# Altium schematic symbol library multiplexorparts.SchLib: 14 symbols
Pins are listed as number, name and electrical type; pins without a type are passive.

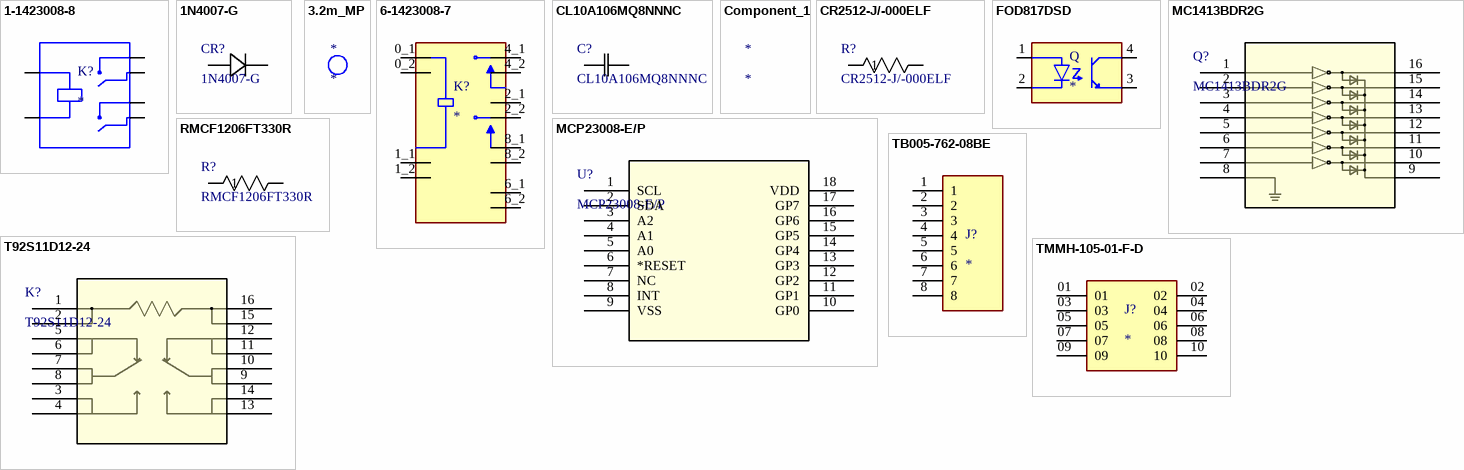
[diagram p0: symbols 1-1423008-8 to TMMH-105-01-F-D]

## 1-1423008-8
designator K?
T92 Series 30 A 24 VDC SPST PCB Mount Through Hole General Purpose Relay; MP: 1-1423008-8; MF: TE Connectivity; Price: None; Package: None; Value: *; Check_prices: https://www.snapeda.com/parts/1-1423008-8/TE%20Connectivity%20Potter%20&%20Brumfield%20Relays/view-part/264002/?ref=eda; Availability: Bad; EU_RoHS_Compliance: Compliant; SnapEDA_Link: https://www.snapeda.com/parts/1-1423008-8/TE%20Connectivity%20Potter%20&%20Brumfield%20Relays/view-part/264002/?ref=snap
footprint RELAY_1-1423008-8
pins: 0.1 0, 0.2 0, 1.1 1, 1.2 1, 2.1 2, 2.2 2, 4.1 4, 4.2 4, 6.1 6, 6.2 6, 8.1 8, 8.2 8

## 1N4007-G
designator CR?
No Description Available; Mfr_Name: Comchip; Type: DEV; Copyright: Copyright (C) 2022 Ultra Librarian. All rights reserved.; Manufacturer_Part_Number: 1N4007-G; Digi-Key_Part_Number_1: 641-1312-1-ND; Digi-Key_Part_Number_2: 641-1312-3-ND; RefDes: RefDes
footprint 1N4-G
pins: 1 11, 2 12

## 3.2m_MP
designator *

## 6-1423008-7
designator K?
General Purpose Relay DPST-NO (2 Form A) 24VDC Coil Through Hole; MP: 6-1423008-7; MF: TE Connectivity / P&B; Package: None; Purchase-URL: https://pricing.snapeda.com/search/part/6-1423008-7/?ref=eda; Price: None; Value: *; SnapEDA_Link: https://www.snapeda.com/parts/6-1423008-7/TE%20Connectivity/view-part/6301405/?ref=snap; Check_prices: https://www.snapeda.com/parts/6-1423008-7/TE%20Connectivity/view-part/6301405/?ref=eda; Availability: In Stock
footprint RELAY_6-1423008-7
pins: 0_1 COIL1, 0_2 COIL1, 1_1 COIL2, 1_2 COIL2, 2_1 NO1, 2_2 NO1, 4_1 COM1, 4_2 COM1, 6_1 NO2, 6_2 NO2, 8_1 COM2, 8_2 COM2

## CL10A106MQ8NNNC
designator C?
No Description Available; Mfr_Name: Samsung; Type: DEV; Copyright: Copyright (C) 2022 Ultra Librarian. All rights reserved.; Manufacturer_Part_Number: CL10A106MQ8NNNC; Digi-Key_Part_Number_1: 1276-1119-2-ND; Digi-Key_Part_Number_2: 1276-1119-1-ND; Digi-Key_Part_Number_3: 1276-1119-6-ND; RefDes: RefDes
footprint CAP_CL10_SAM
pins: 1, 2

## Component_1
designator *

## CR2512-J/-000ELF
designator R?
No Description Available; Mfr_Name: Bourns Electronics; Copyright: Copyright (C) 2022 Ultra Librarian. All rights reserved.; Manufacturer_Part_Number: CR2512-J/-000ELF; Digi-Key_Part_Number_1: CR2512-J/-000ELFCT-ND; Digi-Key_Part_Number_2: CR2512-J/-000ELFDKR-ND; Digi-Key_Part_Number_3: CR2512-J/-000ELFTR-ND; RefDes: RefDes; Type: DEV
footprint BO_CR2512
pins: 1, 2

## FOD817DSD
designator Q
Optoisolator Transistor Output 5000Vrms 1 Channel 4-SMD; MP: FOD817DSD; MF: ON Semiconductor; Value: *; SnapEDA_Link: https://www.snapeda.com/parts/FOD817DSD/ON%20Semiconductor/view-part/1600378/?ref=snap; Package: SMD-4 ON Semiconductor; Digi-Key_Part_Number: FOD817DSDCT-ND; Digi-Key_Purchase_URL: https://www.digikey.com/product-detail/en/on-semiconductor/FOD817DSD/FOD817DSDCT-ND/2053554?utm_source=snapeda&utm_medium=aggregator&utm_campaign=symbol
footprint SOIC254P1016X385-4N
pins: 1 ANODE, 2 CATHODE, 3 EMITTER, 4 COLLECTOR

## MC1413BDR2G
designator Q?
No Description Available; Mfr_Name: onsemi; Type: DEV; Copyright: Copyright (C) 2022 Ultra Librarian. All rights reserved.; Manufacturer_Part_Number: MC1413BDR2G; Digi-Key_Part_Number_1: MC1413BDR2GOSCT-ND; Digi-Key_Part_Number_2: MC1413BDR2GOSDKR-ND; Digi-Key_Part_Number_3: MC1413BDR2GOSTR-ND; RefDes: RefDes
footprint SOIC16_751B-05_ONS
pins: 1, 2, 3, 4, 5, 6, 7, 8, 9, 10, 11, 12, 13, 14, 15, 16

## MCP23008-E/P
designator U?
No Description Available; Mfr_Name: Microchip; Copyright: Copyright (C) 2022 Ultra Librarian. All rights reserved.; Manufacturer_Part_Number: MCP23008-E/P; Digi-Key_Part_Number_1: MCP23008-E/P-ND; RefDes: RefDes; Type: DEV
footprint PDIP18_300MC_MCH
pins: 1 SCL, 2 SDA, 3 A2, 4 A1, 5 A0, 6 *RESET, 7 NC, 8 INT, 9 VSS, 10 GP0, 11 GP1, 12 GP2, 13 GP3, 14 GP4, 15 GP5, 16 GP6, 17 GP7, 18 VDD

## RMCF1206FT330R
designator R?
No Description Available; Mfr_Name: Stackpole International; Copyright: Copyright (C) 2022 Ultra Librarian. All rights reserved.; Manufacturer_Part_Number: RMCF1206FT330R; Digi-Key_Part_Number_1: RMCF1206FT330RCT-ND; Digi-Key_Part_Number_2: RMCF1206FT330RDKR-ND; Digi-Key_Part_Number_3: RMCF1206FT330RTR-ND; RefDes: RefDes; Type: DEV
footprint STA_RMCF1206_STP
pins: 1, 2

## T92S11D12-24
designator K?
No Description Available; Mfr_Name: TE Connectivity; Copyright: Copyright (C) 2022 Ultra Librarian. All rights reserved.; Manufacturer_Part_Number: T92S11D12-24; Digi-Key_Part_Number_1: PB352-ND; RefDes: RefDes; Type: DEV
footprint T92S11D12-24_TEC-corrected
pins: 1, 2, 3, 4, 5, 6, 7, 8, 9, 10, 11, 12, 13, 14, 15, 16

## TB005-762-08BE
designator J?
MP: TB005-762-08BE; Package: None; Price: None; Value: *; Availability: Unavailable
footprint CUI_TB005-762-08BE
pins: 1, 2, 3, 4, 5, 6, 7, 8

## TMMH-105-01-F-D
designator J?
MP: TMMH-105-01-F-D; Package: None; Price: None; Value: *; Availability: Unavailable
footprint SAMTEC_TMMH-105-01-F-D
footprint 10pinheader
pins: 01, 02, 03, 04, 05, 06, 07, 08, 09, 10